# Altium footprint library Aker Crystals.PcbLib: 2 footprints
Each footprint in its own frame and in the unit in brackets; x right, y up, seen from the top. Pads: shape width x height; smd on the part's side, far side on the other; paste and mask are expansions set on the pad; w line width, h text height; cw(c..) or ccw(c..) is an arc to the next point about the centre after c.
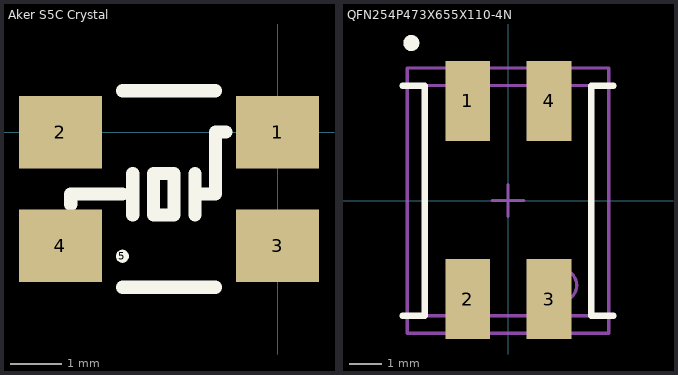
[diagram p0: the footprints below, top view; thin cyan lines are the x and y axes]

## Aker S5C Crystal [mm]
height 1
pads (5):
  rect 1.6x1.4 smd: 1(0,0) 2(-4.2,0) 3(0,-2.2) 4(-4.2,-2.2)
  round 0.254 on Top Overlay: 5(-3,-2.4)
Top Overlay:
  lines w0.254: -4,-1.4 -4,-1.2 -3.8,-1.2 -3,-1.2 ; -3,-3 -1.2,-3 ; -3,0.8 -1.2,0.8 ; -2.8,-1.6 -2.8,-0.8 ; -1.6,-1.6 -1.6,-0.8 ; -1.6,-1.2 -1.2,-1.2 -1.2,0 -1,0 ; -2.4,-1.6 -2.4,-0.8 -2,-0.8 -2,-1.6 -2.4,-1.6
3D body "Aker C5S SMT Crystal.stp": height 1, standoff 0, extent -4.7,-2.8 0.5,0.6

## QFN254P473X655X110-4N [mm] "QFN, 4-Leads, Body 7.2x5.2mm (max), Pitch 5.80mm, Pitch1 2.54mm, IPC Medium Density"
height 1.1
pads (4):
  rect 1.4x2.5 smd: 1(-1.256,3.121) 2(-1.256,-3.079) 3(1.284,-3.079) 4(1.284,3.121)
Top Overlay:
  circle w0.25: c-3.025,4.933 r0.125
  lines w0.2: -3.3,-3.6 -2.6,-3.6 -2.6,0.4 ; -3.3,3.6 -2.6,3.6 -2.6,-0.4 ; 2.6,-0.4 2.6,3.6 3.3,3.6 ; 2.6,0.4 2.6,-3.6 3.3,-3.6
Mechanical 13:
  circle w0.1: c1.65,-2.65 r0.5
  lines w0.1: -2.6,-3.6 2.6,-3.6 2.6,3.6 -2.6,3.6 -2.6,-3.6
Mechanical 15:
  lines w0.1: -0.5,0 0.5,0 ; 0,-0.5 0,0.5 ; -3.15,-4.15 3.15,-4.15 3.15,4.15 -3.15,4.15 -3.15,-4.15
3D body: height 1.1, standoff 0, extent -2.6,-3.6 2.6,3.6